# EAGLE library part APPLE_IIGS_MEM_EXP_CARD_EDGE (library AppleIIGS)
Apple IIGS Memory Expansion Card Edge Fingers
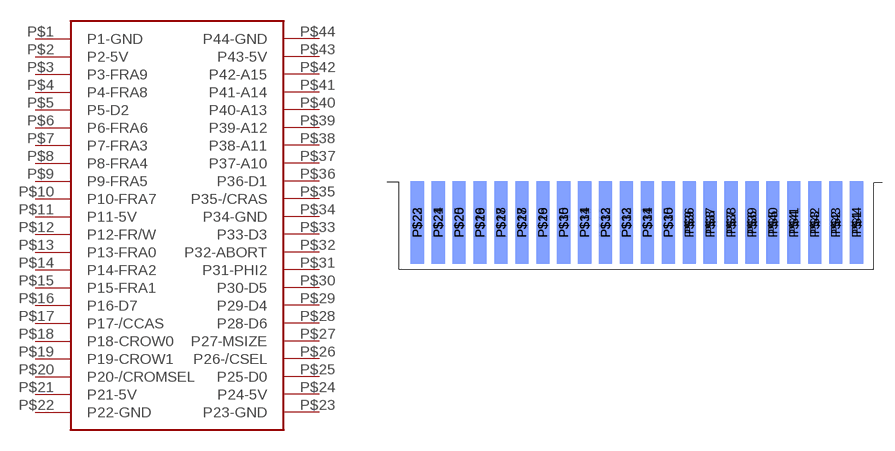
[diagram p0: symbol with the pads of EDGE_FINGERS; footprint EDGE_FINGERS]

Designator prefix -

## APPLE_IIGS_MEM_EXP_CARD_EDGE  [EDGE_FINGERS]
P$1  P1-GND
P$2  P2-5V
P$3  P3-FRA9
P$4  P4-FRA8
P$5  P5-D2
P$6  P6-FRA6
P$7  P7-FRA3
P$8  P8-FRA4
P$9  P9-FRA5
P$10  P10-FRA7
P$11  P11-5V
P$12  P12-FR/W
P$13  P13-FRA0
P$14  P14-FRA2
P$15  P15-FRA1
P$16  P16-D7
P$17  P17-/CCAS
P$18  P18-CROW0
P$19  P19-CROW1
P$20  P20-/CROMSEL
P$21  P21-5V
P$22  P22-GND
P$23  P23-GND
P$24  P24-5V
P$25  P25-D0
P$26  P26-/CSEL
P$27  P27-MSIZE
P$28  P28-D6
P$29  P29-D4
P$30  P30-D5
P$31  P31-PHI2
P$32  P32-ABORT
P$33  P33-D3
P$34  P34-GND
P$35  P35-/CRAS
P$36  P36-D1
P$37  P37-A10
P$38  P38-A11
P$39  P39-A12
P$40  P40-A13
P$41  P41-A14
P$42  P42-A15
P$43  P43-5V
P$44  P44-GND

## Footprint EDGE_FINGERS (pad centres in mm)
Apple IIGS mem expansion card edge
smd 1.6 x 10 bottom: P$1 25.472,-5.08; P$2 22.932,-5.08; P$3 20.392,-5.08; P$4 17.852,-5.08; P$5 15.312,-5.08; P$6 12.772,-5.08; P$7 10.232,-5.08; P$8 7.692,-5.08; P$9 5.152,-5.08; P$10 2.612,-5.08; P$11 0.072,-5.08; P$12 -2.468,-5.08; P$13 -5.008,-5.08; P$14 -7.548,-5.08; P$15 -10.088,-5.08; P$16 -12.628,-5.08; P$17 -15.168,-5.08; P$18 -17.708,-5.08; P$19 -20.248,-5.08; P$20 -22.788,-5.08; P$21 -25.328,-5.08; P$22 -27.868,-5.08
smd 1.6 x 10: P$23 -27.868,-5.08; P$24 -25.328,-5.08; P$25 -22.788,-5.08; P$26 -20.248,-5.08; P$27 -17.708,-5.08; P$28 -15.168,-5.08; P$29 -12.628,-5.08; P$30 -10.088,-5.08; P$31 -7.548,-5.08; P$32 -5.008,-5.08; P$33 -2.468,-5.08; P$34 0.072,-5.08; P$35 2.612,-5.08; P$36 5.152,-5.08; P$37 7.692,-5.08; P$38 10.232,-5.08; P$39 12.772,-5.08; P$40 15.312,-5.08; P$41 17.852,-5.08; P$42 20.392,-5.08; P$43 22.932,-5.08; P$44 25.472,-5.08